# Altium schematic symbol library Light Sensor Node.SchLib: 20 symbols
Pins are listed as number, name and electrical type; pins without a type are passive.

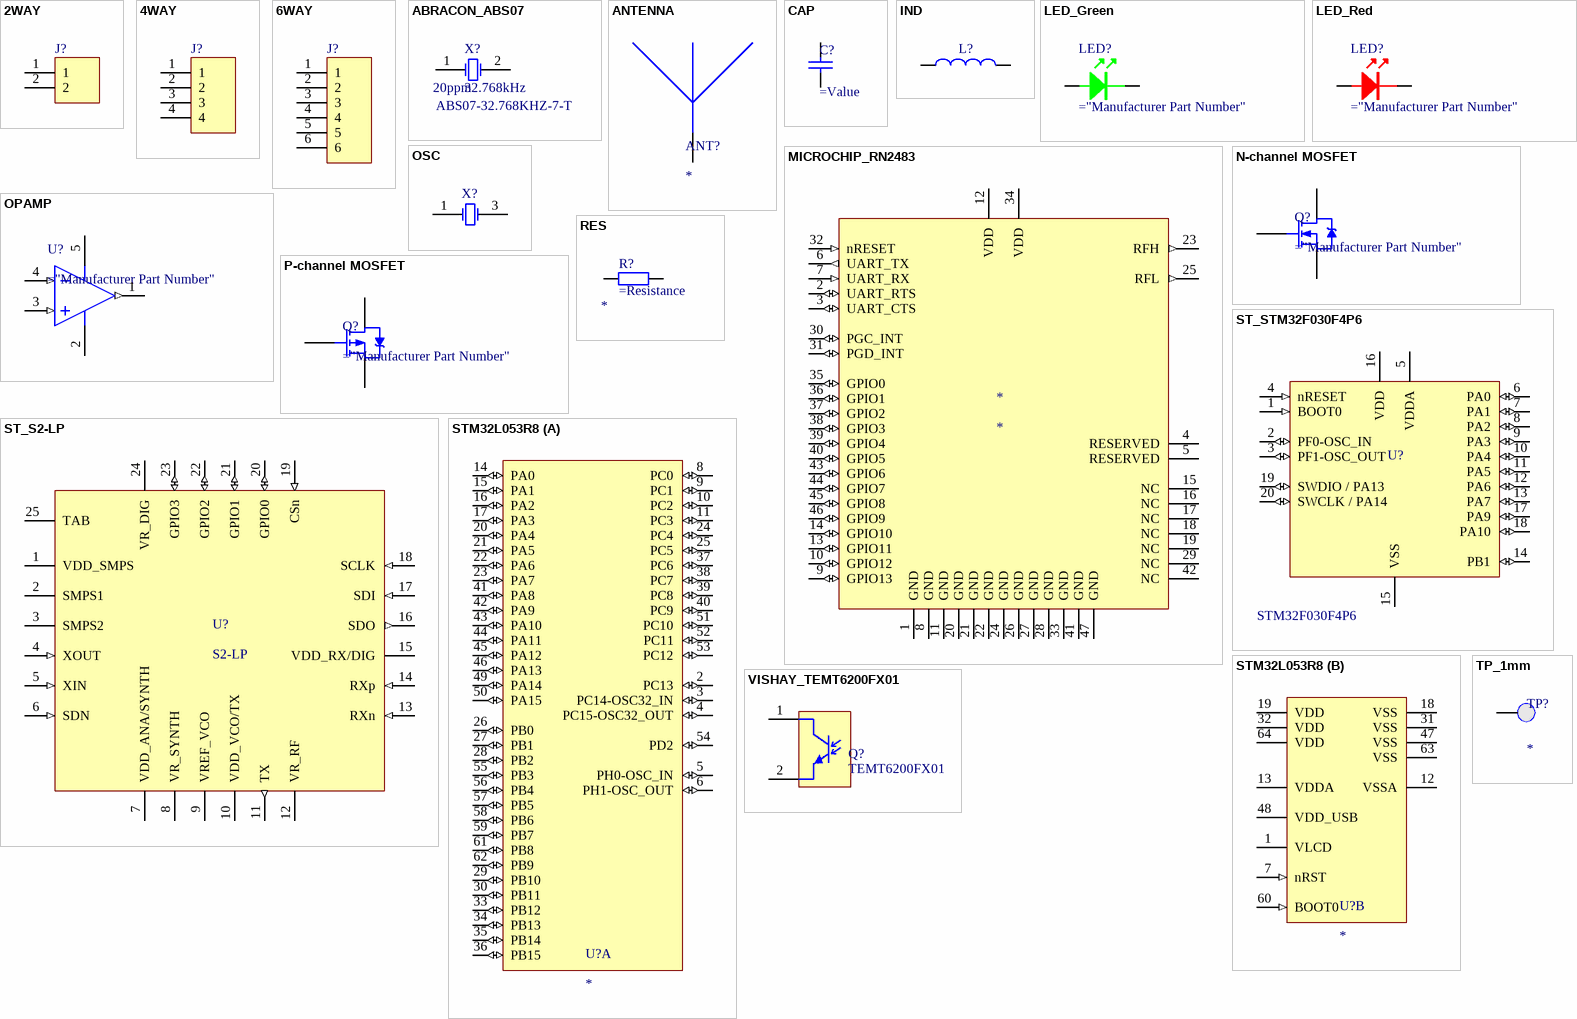
[diagram p0: symbols 2WAY to VISHAY_TEMT6200FX01]

## 2WAY
designator J?
pins: 1, 2

## 4WAY
designator J?
pins: 1, 2, 3, 4

## 6WAY
designator J?
pins: 1, 2, 3, 4, 5, 6

## ABRACON_ABS07
designator X?, comment 32.768kHz  Manufacturer Part Number: ABS07-32.768KHZ-7-T  Frequency Tolerance: 20ppm
Crystal Oscillator; Manufacturer: Abracon; Frequency: 32.768kHz
footprint Abracon_ABS07
pins: 1 OSC1, 2 OSC2

## ANTENNA
designator ANT?
footprint ANTENNA
pins: 1 V+

## CAP
designator C?
CAP
pins: 1, 2

## IND
designator L?
pins: 1, 2

## LED_Green
designator LED?
pins: A, K

## LED_Red
designator LED?
pins: A, K

## MICROCHIP_RN2483
designator *
pins: 1 GND (power), 2 UART_RTS (io), 3 UART_CTS (io), 4 RESERVED, 5 RESERVED, 6 UART_TX (out), 7 UART_RX (in), 8 GND (power), 9 GPIO13 (io), 10 GPIO12 (io), 11 GND (power), 12 VDD (power), 13 GPIO11 (io), 14 GPIO10 (io), 15 NC, 16 NC, 17 NC, 18 NC, 19 NC, 20 GND (power), 21 GND (power), 22 GND (power), 23 RFH (out), 24 GND (power), 25 RFL (out), 26 GND (power), 27 GND (power), 28 GND (power), 29 NC, 30 PGC_INT (io), 31 PGD_INT (io), 32 nRESET (in), 33 GND (power), 34 VDD (power), 35 GPIO0 (io), 36 GPIO1 (io), 37 GPIO2 (io), 38 GPIO3 (io), 39 GPIO4 (io), 40 GPIO5 (io), 41 GND (power), 42 NC, 43 GPIO6 (io), 44 GPIO7 (io), 45 GPIO8 (io), 46 GPIO9 (io), 47 GND (power)

## N-channel MOSFET
designator Q?
pins: 1 G, 2 S, 3 D

## OPAMP
designator U?
pins: 1 OUT A (out), 2 V- (power), 3 IN A+ (in), 4 IN A- (in), 5 V+ (power)

## OSC
designator X?
Crystal Oscillator
pins: 1 OSC1, 3 OSC2

## P-channel MOSFET
designator Q?
pins: 1 G, 2 S, 3 D

## RES
designator R?
RES; Footprint: *
pins: 1, 2

## ST_S2-LP
designator U?, comment S2-LP
Manufacturer: ST Microelectronics; Manufacturer Part Number: S2-LP
pins: 1 VDD_SMPS (power), 2 SMPS1 (power), 3 SMPS2 (power), 4 XOUT (in), 5 XIN (in), 6 SDN (in), 7 VDD_ANA/SYNTH (power), 8 VR_SYNTH (power), 9 VREF_VCO (power), 10 VDD_VCO/TX (power), 11 TX (out), 12 VR_RF (power), 13 RXn (in), 14 RXp (in), 15 VDD_RX/DIG (power), 16 SDO (out), 17 SDI (in), 18 SCLK (in), 19 CSn (in), 20 GPIO0 (io), 21 GPIO1 (io), 22 GPIO2 (io), 23 GPIO3 (io), 24 VR_DIG (power), 25 TAB (power)

## ST_STM32F030F4P6
designator U?  Manufacturer Part Number: STM32F030F4P6  (hidden comment: *)
Manufacturer: ST Microelectronics
pins: 1 BOOT0 (in), 2 PF0-OSC_IN (io), 3 PF1-OSC_OUT (io), 4 nRESET (in), 5 VDDA (power), 6 PA0 (io), 7 PA1 (io), 8 PA2 (io), 9 PA3 (io), 10 PA4 (io), 11 PA5 (io), 12 PA6 (io), 13 PA7 (io), 14 PB1 (io), 15 VSS (power), 16 VDD (power), 17 PA9 (io), 18 PA10 (io), 19 SWDIO / PA13 (io), 20 SWCLK / PA14 (io)

## STM32L053R8
designator U?
Manufacturer: ST; Manufacturer Part Number: STM32L053R8
footprint ST_STM32L053R8Tx (TSQFP, 64-Leads, Body 10.00x10.00mm, Pitch 0.50mm, IPC Medium Density)
part A pins: 2 PC13 (io), 3 PC14-OSC32_IN (io), 4 PC15-OSC32_OUT (io), 5 PH0-OSC_IN (io), 6 PH1-OSC_OUT (io), 8 PC0 (io), 9 PC1 (io), 10 PC2 (io), 11 PC3 (io), 14 PA0 (io), 15 PA1 (io), 16 PA2 (io), 17 PA3 (io), 20 PA4 (io), 21 PA5 (io), 22 PA6 (io), 23 PA7 (io), 24 PC4 (io), 25 PC5 (io), 26 PB0 (io), 27 PB1 (io), 28 PB2 (io), 29 PB10 (io), 30 PB11 (io), 33 PB12 (io), 34 PB13 (io), 35 PB14 (io), 36 PB15 (io), 37 PC6 (io), 38 PC7 (io), 39 PC8 (io), 40 PC9 (io), 41 PA8 (io), 42 PA9 (io), 43 PA10 (io), 44 PA11 (io), 45 PA12 (io), 46 PA13 (io), 49 PA14 (io), 50 PA15 (io), 51 PC10 (io), 52 PC11 (io), 53 PC12 (io), 54 PD2 (io), 55 PB3 (io), 56 PB4 (io), 57 PB5 (io), 58 PB6 (io), 59 PB7 (io), 61 PB8 (io), 62 PB9 (io)
part B pins: 1 VLCD (power), 7 nRST (in), 12 VSSA (power), 13 VDDA (power), 18 VSS (power), 19 VDD (power), 31 VSS (power), 32 VDD (power), 47 VSS (power), 48 VDD_USB (power), 60 BOOT0 (in), 63 VSS (power), 64 VDD (power)

## TP_1mm
designator TP?  (no BOM)
footprint TP_1mm (Test point land 1.0mm)
pins: 1

## VISHAY_TEMT6200FX01
designator Q?, comment TEMT6200FX01
Manufacturer: Vishay; Manufacturer Part Number: TEMT6200FX01
pins: 1 C, 2 E